# EAGLE library part STM32F0DISCOVERY (library InterfaceParts)
STM32F0DISCOVERY Evaluation Board Data Sheet <http://www.st.com/content/ccc/resource/technical/document/user_manual/30/ae/6e/54/d3/b6/46/17/DM00050135.pdf/files/DM00050135.pdf/jcr:content/translations/en.DM00050135.pdf>
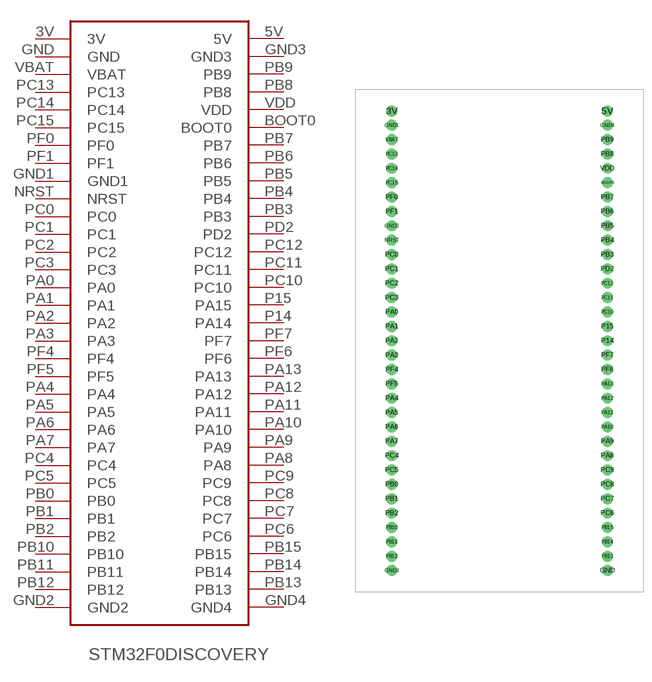
[diagram p0: symbol with the pads of STM32F0DISCOVERY; footprint STM32F0DISCOVERY]

Designator prefix -

## STM32F0DISCOVERY  [STM32F0DISCOVERY]
3V  3V
5V  5V
BOOT0  BOOT0
GND  GND
GND1  GND1
GND2  GND2
GND3  GND3
GND4  GND4
NRST  NRST
P14  PA14
P15  PA15
PA0  PA0
PA1  PA1
PA2  PA2
PA3  PA3
PA4  PA4
PA5  PA5
PA6  PA6
PA7  PA7
PA8  PA8
PA9  PA9
PA10  PA10
PA11  PA11
PA12  PA12
PA13  PA13
PB0  PB0
PB1  PB1
PB2  PB2
PB3  PB3
PB4  PB4
PB5  PB5
PB6  PB6
PB7  PB7
PB8  PB8
PB9  PB9
PB10  PB10
PB11  PB11
PB12  PB12
PB13  PB13
PB14  PB14
PB15  PB15
PC0  PC0
PC1  PC1
PC2  PC2
PC3  PC3
PC4  PC4
PC5  PC5
PC6  PC6
PC7  PC7
PC8  PC8
PC9  PC9
PC10  PC10
PC11  PC11
PC12  PC12
PC13  PC13
PC14  PC14
PC15  PC15
PD2  PD2
PF0  PF0
PF1  PF1
PF4  PF4
PF5  PF5
PF6  PF6
PF7  PF7
VBAT  VBAT
VDD  VDD

## Footprint STM32F0DISCOVERY (pad centres in mm)
drill 0.9 pad 1.93: 3V -20.32,40.64; 5V 17.78,40.64; BOOT0 17.78,27.94; GND 17.78,-40.64; GND1 -20.32,38.1; GND2 -20.32,20.32; GND3 -20.32,-40.64; GND4 17.78,38.1; NRST -20.32,17.78; P14 17.78,0; P15 17.78,2.54; PA0 -20.32,5.08; PA1 -20.32,2.54; PA2 -20.32,0; PA3 -20.32,-2.54; PA4 -20.32,-10.16; PA5 -20.32,-12.7; PA6 -20.32,-15.24; PA7 -20.32,-17.78; PA8 17.78,-20.32; PA9 17.78,-17.78; PA10 17.78,-15.24; PA11 17.78,-12.7; PA12 17.78,-10.16; PA13 17.78,-7.62; PB0 -20.32,-25.4; PB1 -20.32,-27.94; PB2 -20.32,-30.48; PB3 17.78,15.24; PB4 17.78,17.78; PB5 17.78,20.32; PB6 17.78,22.86; PB7 17.78,25.4; PB8 17.78,33.02; PB9 17.78,35.56; PB10 -20.32,-33.02; PB11 -20.32,-35.56; PB12 -20.32,-38.1; PB13 17.78,-38.1; PB14 17.78,-35.56; PB15 17.78,-33.02; PC0 -20.32,15.24; PC1 -20.32,12.7; PC2 -20.32,10.16; PC3 -20.32,7.62; PC4 -20.32,-20.32; PC5 -20.32,-22.86; PC6 17.78,-30.48; PC7 17.78,-27.94; PC8 17.78,-25.4; PC9 17.78,-22.86; PC10 17.78,5.08; PC11 17.78,7.62; PC12 17.78,10.16; PC13 -20.32,33.02; PC14 -20.32,30.48; PC15 -20.32,27.94; PD2 17.78,12.7; PF0 -20.32,25.4; PF1 -20.32,22.86; PF4 -20.32,-5.08; PF5 -20.32,-7.62; PF6 17.78,-5.08; PF7 17.78,-2.54; VBAT -20.32,35.56; VDD 17.78,30.48